# Altium integrated library A768EB476M1ELAS042.IntLib: 1 symbol
Pins are listed as number, name and electrical type; pins without a type are passive.

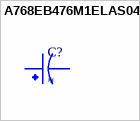
[diagram p0: symbol A768EB476M1ELAS042]

## A768EB476M1ELAS042
designator C?
MF: {'manufacturer': u'KEMET'}; MP: A768EB476M1ELAS042; Package: None; Price: None; Value: *; Availability: Unavailable
footprint CAPAE660X600N
pins: 1, 2